# Altium schematic symbol library Screw Terminals.SchLib: 2 symbols
Pins are listed as number, name and electrical type; pins without a type are passive.

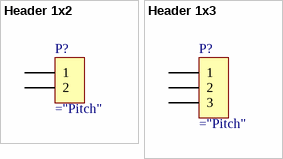
[diagram p0: symbols Header 1x2 to Header 1x3]

## Header 1x2
designator P?
pins: 1, 2

## Header 1x3
designator P?
pins: 1, 2, 3